# Altium schematic symbol library Relays.SchLib: 2 symbols
Pins are listed as number, name and electrical type; pins without a type are passive.

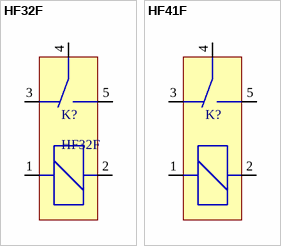
[diagram p0: symbols HF32F to HF41F]

## HF32F
designator K?
Реле 5В, НО/НЗ; ValueManufacturerPartNumber: HF32F-G/005-H; ValueManufacturer: Xiamen Hongfa Electroacoustic Co.; ValueType: Реле
footprint HF32F
pins: 1, 2, 3, 4, 5

## HF41F
designator K?  (value not drawn)
Реле 5В, НО/НЗ; ValueManufacturerPartNumber: HF41F/5-ZSG; ValueManufacturer: Xiamen Hongfa Electroacoustic Co.; ValueType: Реле
footprint HF41F
pins: 1, 2, 3, 4, 5